# Altium schematic symbol library ERA-3ARB472V.SchLib: 1 symbol
Pins are listed as number, name and electrical type; pins without a type are passive.

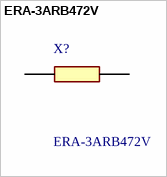
[diagram p0: symbol ERA-3ARB472V]

## ERA-3ARB472V
designator X?
Thin Film Resistors - SMD 0603 4.7Kohm 0.1% 10ppm AEC-Q200; Manufacturer_Name: Panasonic; Geometry.Height: 0.55mm; Mouser Part Number: 667-ERA-3ARB472V; Mouser Price/Stock: https://www.mouser.co.uk/ProductDetail/Panasonic/ERA-3ARB472V?qs=ob%252BdNz2%252BYEhO%2FuFwsMtJGA%3D%3D; Manufacturer_Part_Number: ERA-3ARB472V; Datasheet Link: https://industrial.panasonic.com/cdbs/www-data/pdf/RDM0000/AOA0000C307.pdf
footprint ERA3AEB101V
pins: 1, 2